# EAGLE library part PIC18F2XK20 (library GadgetFactory_v1)
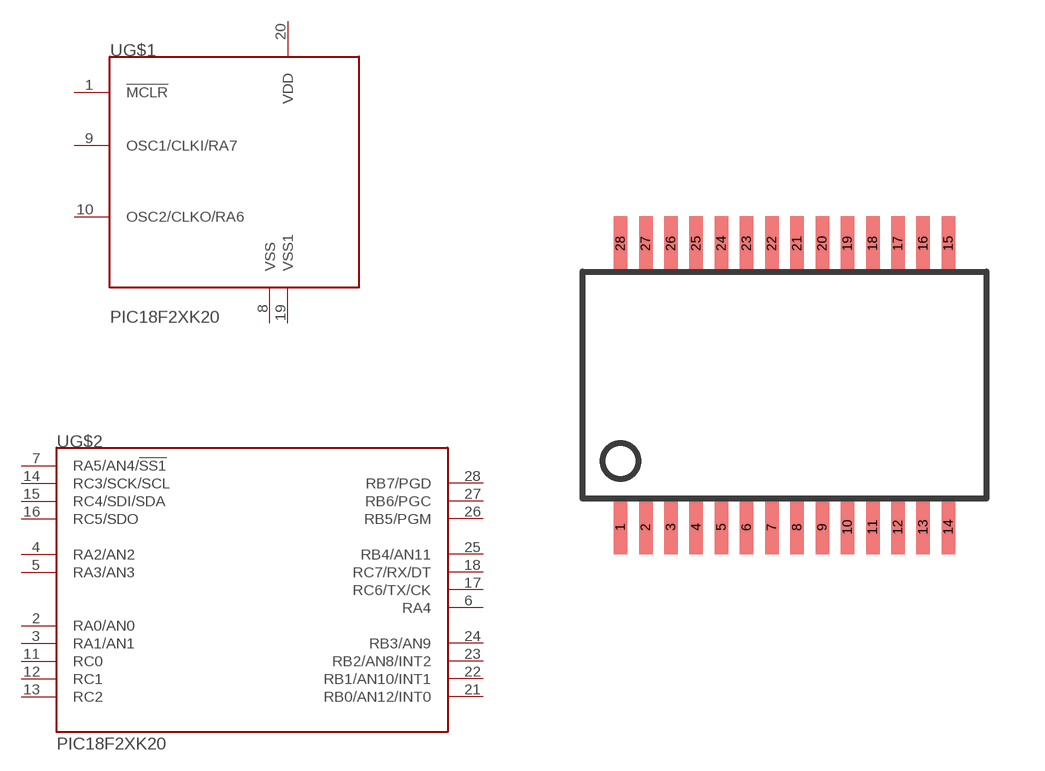
[diagram p17: symbol with the pads of SSOP28; footprint SSOP28]

Designator prefix U; gates G$1=PIC18F2XK20_CTL G$2=PIC18F2XK20_IO

## PIC18F2XK20SS  [SSOP28]
1  G$1:!MCLR  in
2  G$2:RA0/AN0
3  G$2:RA1/AN1
4  G$2:RA2/AN2
5  G$2:RA3/AN3
6  G$2:RA4
7  G$2:RA5/AN4/!SS1!
8  G$1:VSS  pwr
9  G$1:OSC1/CLKI/RA7
10  G$1:OSC2/CLKO/RA6
11  G$2:RC0
12  G$2:RC1
13  G$2:RC2
14  G$2:RC3/SCK/SCL
15  G$2:RC4/SDI/SDA
16  G$2:RC5/SDO
17  G$2:RC6/TX/CK
18  G$2:RC7/RX/DT
19  G$1:VSS1  pwr
20  G$1:VDD  pwr
21  G$2:RB0/AN12/INT0
22  G$2:RB1/AN10/INT1
23  G$2:RB2/AN8/INT2
24  G$2:RB3/AN9
25  G$2:RB4/AN11
26  G$2:RB5/PGM
27  G$2:RB6/PGC
28  G$2:RB7/PGD

## Footprint SSOP28 (pad centres in mm)
Small Shrink Outline Package
smd 0.348 x 1.397: 1 -4.225,-3.656; 2 -3.575,-3.656; 3 -2.925,-3.656; 4 -2.275,-3.656; 5 -1.625,-3.656; 6 -0.975,-3.656; 7 -0.325,-3.656; 8 0.325,-3.656; 9 0.975,-3.656; 10 1.625,-3.656; 11 2.275,-3.656; 12 2.925,-3.656; 13 3.575,-3.656; 14 4.225,-3.656; 15 4.225,3.656; 16 3.575,3.656; 17 2.925,3.656; 18 2.275,3.656; 19 1.625,3.656; 20 0.975,3.656; 21 0.325,3.656; 22 -0.325,3.656; 23 -0.975,3.656; 24 -1.625,3.656; 25 -2.275,3.656; 26 -2.925,3.656; 27 -3.575,3.656; 28 -4.225,3.656